# EAGLE library part 74*7008 (library 74ttl-din)
NOR/NAND/INVERTER
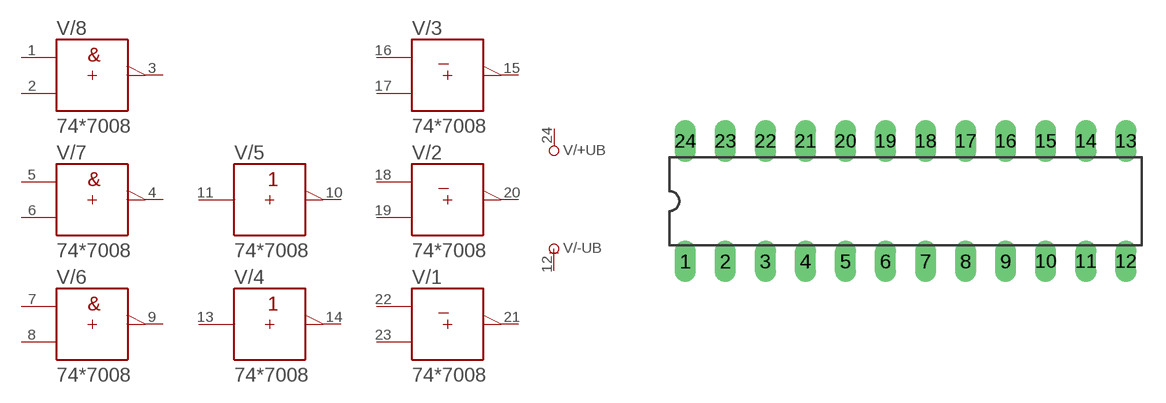
[diagram p147: symbol with the pads of DIL24-3; footprint DIL24-3]

Designator prefix V; gates /+UB=+UB /-UB=-UB /1=7008_8 /2=7008_7 /3=7008_6 /4=7008_5 /5=7008_4 /6=7008_3 /7=7008_2 /8=7008_1

## 747008N  [DIL24-3]
1  /8:A  in
2  /8:B  in
3  /8:Y  out
4  /7:Y  out
5  /7:A  in
6  /7:B  in
7  /6:A  in
8  /6:B  in
9  /6:Y  out
10  /5:Y  out
11  /5:A  in
12  /-UB:-UB  pwr
13  /4:A  in
14  /4:Y  out
15  /3:Y  out
16  /3:A  in
17  /3:B  in
18  /2:A  in
19  /2:B  in
20  /2:Y  out
21  /1:Y  out
22  /1:A  in
23  /1:B  in
24  /+UB:+UB  pwr

## Footprint DIL24-3 (pad centres in mm)
Dual In Line Package 0.3 inch
drill 0.813 long: 1 -13.97,-3.81; 2 -11.43,-3.81; 3 -8.89,-3.81; 4 -6.35,-3.81; 5 -3.81,-3.81; 6 -1.27,-3.81; 7 1.27,-3.81; 8 3.81,-3.81; 9 6.35,-3.81; 10 8.89,-3.81; 11 11.43,-3.81; 12 13.97,-3.81; 13 13.97,3.81; 14 11.43,3.81; 15 8.89,3.81; 16 6.35,3.81; 17 3.81,3.81; 18 1.27,3.81; 19 -1.27,3.81; 20 -3.81,3.81; 21 -6.35,3.81; 22 -8.89,3.81; 23 -11.43,3.81; 24 -13.97,3.81